# EAGLE library part MAX1796 (library ERIC)
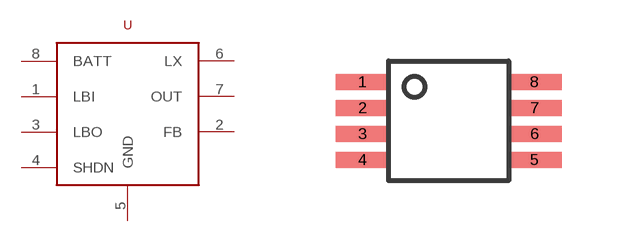
[diagram p10: symbol with the pads of MICRO_MAX_8; footprint MICRO_MAX_8]

Designator prefix -

## MAX1796  [MICRO_MAX_8]
1  LBI  in
2  FB
3  LBO  out
4  SHDN  in
5  GND  pwr
6  LX
7  OUT  sup
8  BATT

## Footprint MICRO_MAX_8 (pad centres in mm)
8- pin µMAX package that is only 1.09mm tall and half the size of an 8-pin SO.
smd 1.35 x 0.4: 1 -2.15,0.975; 2 -2.15,0.325; 3 -2.15,-0.325; 4 -2.15,-0.975; 5 2.15,-0.975; 6 2.15,-0.325; 7 2.15,0.325; 8 2.15,0.975